# Altium schematic symbol library 5306NT015E.SchLib: 1 symbol
Pins are listed as number, name and electrical type; pins without a type are passive.

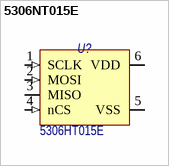
[diagram p0: symbol 5306NT015E]

## 5306NT015E
designator U?  Наименование: 5306НТ015Е  (hidden comment: 5306NT015E)
Интегральный датчик температуры, SPI, 3V3; Потрбление, Вт: 0,01; Назначение: Интегральный датчик температуры, SPI, 3V3; ComponentLink1Description: DataSheet; ComponentLink1URL: https://clck.yandex.ru/redir/nWO_r1F33ck?data=NnBZTWRhdFZKOHRaTENSMFc4S0VQSE8wcTI3WENNcmQwalQxejdHNHpQVG95QzlyVGNJYVQ2YVlCR0NSY3F1WGY5bmZsQnA5WlJheUE5MEVHRDdLY3dZdm1kZzhiQktONEpGeG9pRDJJWk9jenZpRWtPczIwQ1N4bEFFMVVKd2FHRWNyT2ZWWGlXM1AtOC04cFZGdjlUNng4eXN4MlFkUDJUMWs4bUplT2FhdjVYeGw0RmVjal9UZ3JMNmRxWi1Y&b64e=2&sign=dfac2bd4cc7b15444b65469ca72d3b74&keyno=17
footprint 5221.6-1 (5221.6-1, 6-Leads, Body 4,40x5,25mm, Pitch 1,27mm, Thermal Pad 3,00x2,60mm, IPC Medium Density)
pins: 1 SCLK (in), 2 MOSI (in), 3 MISO (oc), 4 nCS (in), 5 VSS (power), 6 VDD (power)